# Altium footprint library NTE4153NT1G.PcbLib: 3 footprints
Each footprint in its own frame and in the unit in brackets; x right, y up, seen from the top. Pads: shape width x height; smd on the part's side, far side on the other; paste and mask are expansions set on the pad; w line width, h text height; cw(c..) or ccw(c..) is an arc to the next point about the centre after c.
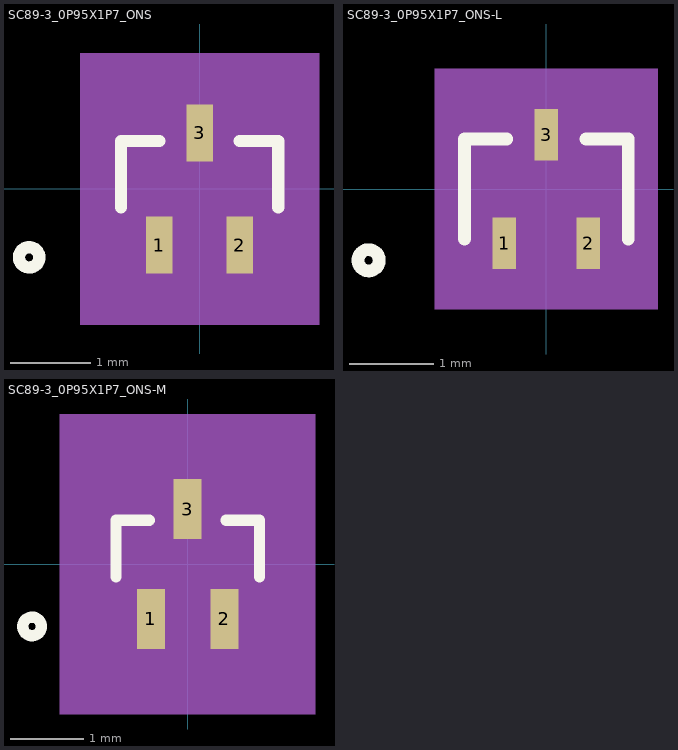
[diagram p0: the footprints below, top view; thin cyan lines are the x and y axes]

## SC89-3_0P95X1P7_ONS [mil]
pads (3):
  rect 13x28 smd paste+0 mask+0: 1(-19.68,-27.5) 2(19.68,-27.5) 3(0,27.5)
Top Overlay:
  circle w6: c-83.5,-33.5 r5
  lines w6: -38.5,-9.03 -38.5,23.5 -19.6,23.5 ; 19.6,23.5 38.5,23.5 38.5,-9.03
Mechanical 5:
  region: -58.5,66.5 58.5,66.5 58.5,-66.5 -58.5,-66.5
Mechanical 13:
  circle w0: c-23.5,-8.5 r5
  lines w1: -33.5,-18.5 33.5,-18.5 33.5,18.5 -33.5,18.5 -33.5,-18.5 ; -26.18,-33.5 -26.18,-18.5 -13.19,-18.5 -13.19,-33.5 -26.18,-33.5 ; -6.5,18.5 6.5,18.5 6.5,33.5 -6.5,33.5 -6.5,18.5 ; 13.19,-33.5 13.19,-18.5 26.18,-18.5 26.18,-33.5 13.19,-33.5
Mechanical 15:
  region: -43.5,-28.5 -43.5,28.5 -16.5,28.5 -16.5,51.5 16.5,51.5 16.5,28.5 43.5,28.5 43.5,-28.5 36.19,-28.5 36.19,-51.5 -36.19,-51.5 -36.19,-28.5
  region: 33.5,-18.5 -33.5,-18.5 -33.5,18.5 33.5,18.5
  lines w6: -43.5,-28.5 -43.5,28.5 -16.5,28.5 -16.5,51.5 16.5,51.5 16.5,28.5 43.5,28.5 43.5,-28.5 36.19,-28.5 36.19,-51.5 -36.19,-51.5 -36.19,-28.5 -43.5,-28.5
3D body "SC89-3_0P95X1P7_ONS.step": height 34.09, standoff 0, extent -33.5,-33.5 33.5,33.5

## SC89-3_0P95X1P7_ONS-L [mil]
pads (3):
  rect 11x24 smd paste+0 mask+0: 1(-19.68,-25.5) 2(19.68,-25.5) 3(0,25.5)
Top Overlay:
  circle w6: c-83.5,-33.5 r5
  lines w6: -38.5,-23.5 -38.5,23.5 -18.6,23.5 ; 18.6,23.5 38.5,23.5 38.5,-23.5
Mechanical 5:
  region: -52.5,56.5 52.5,56.5 52.5,-56.5 -52.5,-56.5
Mechanical 13:
  circle w0: c-23.5,-8.5 r5
  lines w1: -33.5,-18.5 33.5,-18.5 33.5,18.5 -33.5,18.5 -33.5,-18.5 ; -26.18,-33.5 -26.18,-18.5 -13.19,-18.5 -13.19,-33.5 -26.18,-33.5 ; -6.5,18.5 6.5,18.5 6.5,33.5 -6.5,33.5 -6.5,18.5 ; 13.19,-33.5 13.19,-18.5 26.18,-18.5 26.18,-33.5 13.19,-33.5
Mechanical 15:
  region: -37.5,-22.5 -37.5,22.5 -10.5,22.5 -10.5,41.5 10.5,41.5 10.5,22.5 37.5,22.5 37.5,-22.5 30.18,-22.5 30.18,-41.5 -30.18,-41.5 -30.18,-22.5
  region: 33.5,-18.5 -33.5,-18.5 -33.5,18.5 33.5,18.5
  lines w6: -37.5,-22.5 -37.5,22.5 -9.5,22.5 -9.5,41.5 9.5,41.5 9.5,22.5 37.5,22.5 37.5,-22.5 29.18,-22.5 29.18,-41.5 -29.18,-41.5 -29.18,-22.5 -37.5,-22.5
3D body "SC89-3_0P95X1P7_ONS.step": height 34.09, standoff 0, extent -33.5,-33.5 33.5,33.5

## SC89-3_0P95X1P7_ONS-M [mil]
pads (3):
  rect 15x32 smd paste+0 mask+0: 1(-19.68,-29.5) 2(19.68,-29.5) 3(0,29.5)
Top Overlay:
  circle w6: c-83.5,-33.5 r5
  lines w6: -38.5,-6.9 -38.5,23.5 -20.6,23.5 ; 20.6,23.5 38.5,23.5 38.5,-6.9
Mechanical 5:
  region: -68.5,80.5 68.5,80.5 68.5,-80.5 -68.5,-80.5
Mechanical 13:
  circle w0: c-23.5,-8.5 r5
  lines w1: -33.5,-18.5 33.5,-18.5 33.5,18.5 -33.5,18.5 -33.5,-18.5 ; -26.18,-33.5 -26.18,-18.5 -13.19,-18.5 -13.19,-33.5 -26.18,-33.5 ; -6.5,18.5 6.5,18.5 6.5,33.5 -6.5,33.5 -6.5,18.5 ; 13.19,-33.5 13.19,-18.5 26.18,-18.5 26.18,-33.5 13.19,-33.5
Mechanical 15:
  region: -53.5,-38.5 -53.5,38.5 -26.5,38.5 -26.5,65.5 26.5,65.5 26.5,38.5 53.5,38.5 53.5,-38.5 46.19,-38.5 46.19,-65.5 -46.19,-65.5 -46.19,-38.5
  region: 33.5,-18.5 -33.5,-18.5 -33.5,18.5 33.5,18.5
  lines w6: -53.5,-38.5 -53.5,38.5 -27.5,38.5 -27.5,65.5 27.5,65.5 27.5,38.5 53.5,38.5 53.5,-38.5 47.19,-38.5 47.19,-65.5 -47.19,-65.5 -47.19,-38.5 -53.5,-38.5
3D body "SC89-3_0P95X1P7_ONS.step": height 34.09, standoff 0, extent -33.5,-33.5 33.5,33.5